# EAGLE library part MC9S12A*PV (library micro-motorola)
MC9S12A256 microcontroller unit (MCU) 16-bit HCS12 Core; Upward compatible with M68HC11 instruction set Source: 9S12A128DGV1.pdf; 9S12A256DGV1.pdf
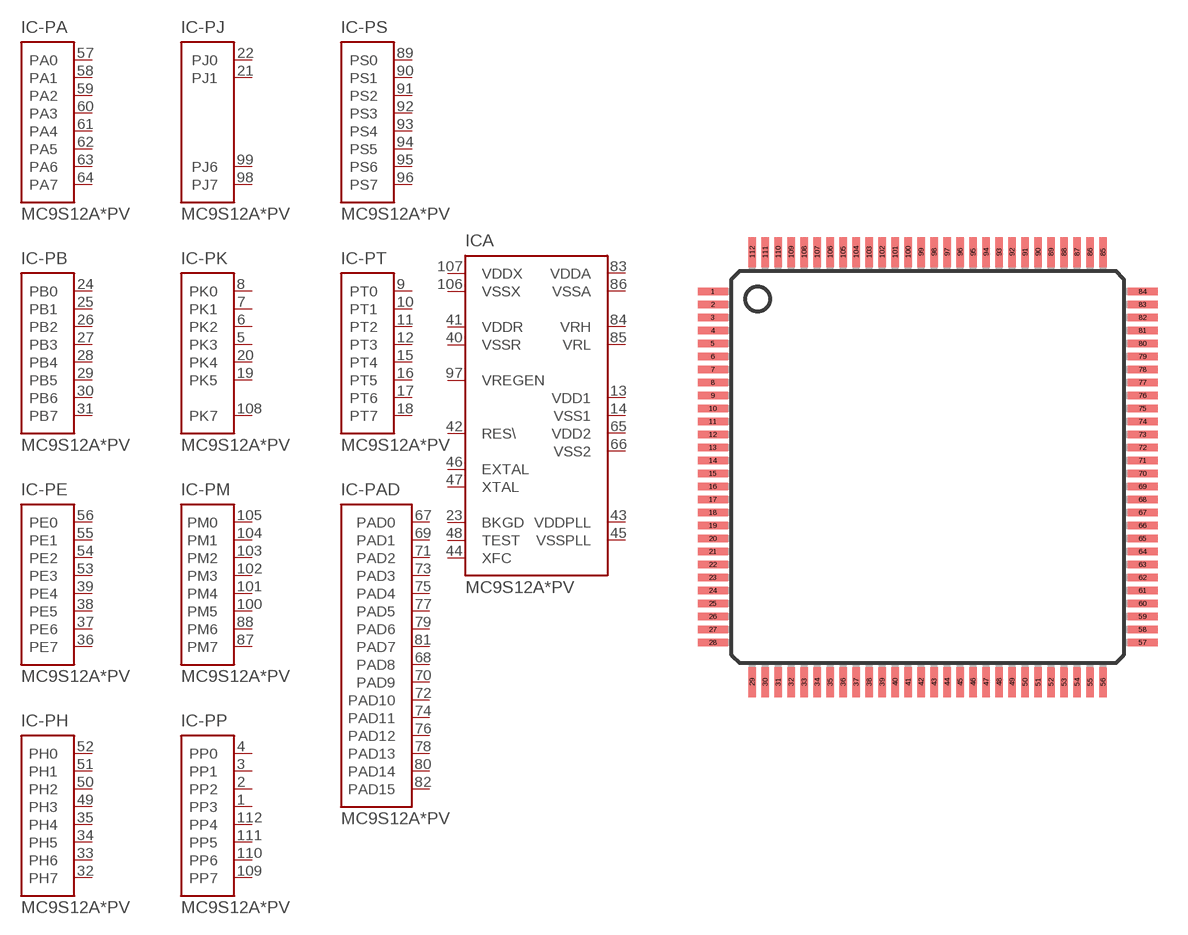
[diagram p77: symbol with the pads of TQFP112; footprint TQFP112]

Designator prefix IC; gates -PA=MC9S12-PA -PB=MC9S12-PB -PE=MC9S12-PE -PP=MC9S12-PP -PM=MC9S12-PM -PS=MC9S12-PS -PT=MC9S12-PT -PH=MC9S12-PH -PAD=MC9S12-PADAN15 -PK=MC9S12-PK -PJ=MC9S12-PJ A=MC9S12A256

## MC9S12A128BCPV, MC9S12A256CPV  [TQFP112]
1  -PP:PP3
2  -PP:PP2
3  -PP:PP1
4  -PP:PP0
5  -PK:PK3
6  -PK:PK2
7  -PK:PK1
8  -PK:PK0
9  -PT:PT0
10  -PT:PT1
11  -PT:PT2
12  -PT:PT3
13  A:VDD1  out
14  A:VSS1  out
15  -PT:PT4
16  -PT:PT5
17  -PT:PT6
18  -PT:PT7
19  -PK:PK5
20  -PK:PK4
21  -PJ:PJ1
22  -PJ:PJ0
23  A:BKGD  oc
24  -PB:PB0
25  -PB:PB1
26  -PB:PB2
27  -PB:PB3
28  -PB:PB4
29  -PB:PB5
30  -PB:PB6
31  -PB:PB7
32  -PH:PH7
33  -PH:PH6
34  -PH:PH5
35  -PH:PH4
36  -PE:PE7
37  -PE:PE6
38  -PE:PE5
39  -PE:PE4
40  A:VSSR  pwr
41  A:VDDR  pwr
42  A:RES\
43  A:VDDPLL  out
44  A:XFC
45  A:VSSPLL  out
46  A:EXTAL  in
47  A:XTAL  out
48  A:TEST  in
49  -PH:PH3
50  -PH:PH2
51  -PH:PH1
52  -PH:PH0
53  -PE:PE3
54  -PE:PE2
55  -PE:PE1  in
56  -PE:PE0  in
57  -PA:PA0
58  -PA:PA1
59  -PA:PA2
60  -PA:PA3
61  -PA:PA4
62  -PA:PA5
63  -PA:PA6
64  -PA:PA7
65  A:VDD2  out
66  A:VSS2  out
67  -PAD:PAD0  in
68  -PAD:PAD8  in
69  -PAD:PAD1  in
70  -PAD:PAD9  in
71  -PAD:PAD2  in
72  -PAD:PAD10  in
73  -PAD:PAD3  in
74  -PAD:PAD11  in
75  -PAD:PAD4  in
76  -PAD:PAD12  in
77  -PAD:PAD5  in
78  -PAD:PAD13  in
79  -PAD:PAD6  in
80  -PAD:PAD14  in
81  -PAD:PAD7  in
82  -PAD:PAD15  in
83  A:VDDA  pwr
84  A:VRH  in
85  A:VRL  in
86  A:VSSA  pwr
87  -PM:PM7
88  -PM:PM6
89  -PS:PS0
90  -PS:PS1
91  -PS:PS2
92  -PS:PS3
93  -PS:PS4
94  -PS:PS5
95  -PS:PS6
96  -PS:PS7
97  A:VREGEN  in
98  -PJ:PJ7
99  -PJ:PJ6
100  -PM:PM5
101  -PM:PM4
102  -PM:PM3
103  -PM:PM2
104  -PM:PM1
105  -PM:PM0
106  A:VSSX  pwr
107  A:VDDX  pwr
108  -PK:PK7
109  -PP:PP7
110  -PP:PP6
111  -PP:PP5
112  -PP:PP4

## Footprint TQFP112 (pad centres in mm)
Thin Quad Flat Pack 112-Pin LQFP (Case no. 987) 9S12A256DGV1.pdf
smd 1.5 x 0.37: 1 -10.75,8.775; 2 -10.75,8.125; 3 -10.75,7.475; 4 -10.75,6.825; 5 -10.75,6.175; 6 -10.75,5.525; 7 -10.75,4.875; 8 -10.75,4.225; 9 -10.75,3.575; 10 -10.75,2.925; 11 -10.75,2.275; 12 -10.75,1.625; 13 -10.75,0.975; 14 -10.75,0.325; 15 -10.75,-0.325; 16 -10.75,-0.975; 17 -10.75,-1.625; 18 -10.75,-2.275; 19 -10.75,-2.925; 20 -10.75,-3.575; 21 -10.75,-4.225; 22 -10.75,-4.875; 23 -10.75,-5.525; 24 -10.75,-6.175; 25 -10.75,-6.825; 26 -10.75,-7.475; 27 -10.75,-8.125; 28 -10.75,-8.775; 57 10.75,-8.775; 58 10.75,-8.125; 59 10.75,-7.475; 60 10.75,-6.825; 61 10.75,-6.175; 62 10.75,-5.525; 63 10.75,-4.875; 64 10.75,-4.225; 65 10.75,-3.575; 66 10.75,-2.925; 67 10.75,-2.275; 68 10.75,-1.625; 69 10.75,-0.975; 70 10.75,-0.325; 71 10.75,0.325; 72 10.75,0.975; 73 10.75,1.625; 74 10.75,2.275; 75 10.75,2.925; 76 10.75,3.575; 77 10.75,4.225; 78 10.75,4.875; 79 10.75,5.525; 80 10.75,6.175; 81 10.75,6.825; 82 10.75,7.475; 83 10.75,8.125; 84 10.75,8.775
smd 0.37 x 1.5: 29 -8.775,-10.75; 30 -8.125,-10.75; 31 -7.475,-10.75; 32 -6.825,-10.75; 33 -6.175,-10.75; 34 -5.525,-10.75; 35 -4.875,-10.75; 36 -4.225,-10.75; 37 -3.575,-10.75; 38 -2.925,-10.75; 39 -2.275,-10.75; 40 -1.625,-10.75; 41 -0.975,-10.75; 42 -0.325,-10.75; 43 0.325,-10.75; 44 0.975,-10.75; 45 1.625,-10.75; 46 2.275,-10.75; 47 2.925,-10.75; 48 3.575,-10.75; 49 4.225,-10.75; 50 4.875,-10.75; 51 5.525,-10.75; 52 6.175,-10.75; 53 6.825,-10.75; 54 7.475,-10.75; 55 8.125,-10.75; 56 8.775,-10.75; 85 8.775,10.75; 86 8.125,10.75; 87 7.475,10.75; 88 6.825,10.75; 89 6.175,10.75; 90 5.525,10.75; 91 4.875,10.75; 92 4.225,10.75; 93 3.575,10.75; 94 2.925,10.75; 95 2.275,10.75; 96 1.625,10.75; 97 0.975,10.75; 98 0.325,10.75; 99 -0.325,10.75; 100 -0.975,10.75; 101 -1.625,10.75; 102 -2.275,10.75; 103 -2.925,10.75; 104 -3.575,10.75; 105 -4.225,10.75; 106 -4.875,10.75; 107 -5.525,10.75; 108 -6.175,10.75; 109 -6.825,10.75; 110 -7.475,10.75; 111 -8.125,10.75; 112 -8.775,10.75